# Altium integrated library Altium Database Library V2.IntLib: 825 symbols (part 39 of 40)

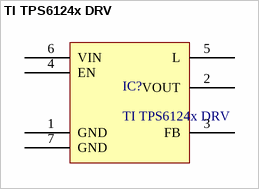
[diagram p794: symbol TI TPS6124x DRV]

## TI TPS6124x DRV
designator IC?
Integrated Circuit
pins: 1 GND, 2 VOUT, 3 FB, 4 EN, 5 L, 6 VIN, 7 GND


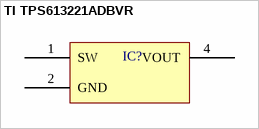
[diagram p795: symbol TI TPS613221ADBVR]

## TI TPS613221ADBVR
designator IC?
pins: 1 SW, 2 GND, 4 VOUT


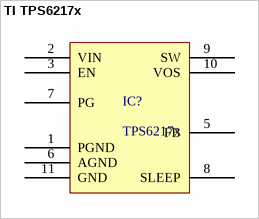
[diagram p796: symbol TI TPS6217x]

## TI TPS6217x
designator IC?, comment TPS6217x
pins: 1 PGND, 2 VIN, 3 EN, 5 FB, 6 AGND, 7 PG, 8 SLEEP, 9 SW, 10 VOS, 11 GND


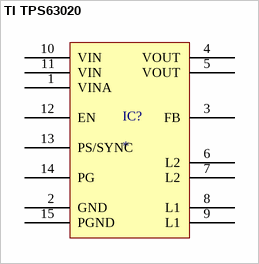
[diagram p797: symbol TI TPS63020]

## TI TPS63020
designator IC?
pins: 1 VINA, 2 GND, 3 FB, 4 VOUT, 5 VOUT, 6 L2, 7 L2, 8 L1, 9 L1, 10 VIN, 11 VIN, 12 EN, 13 PS/SYNC, 14 PG, 15 PGND


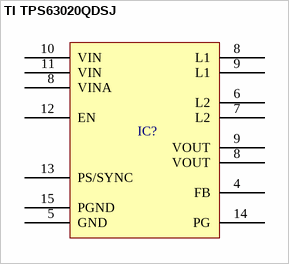
[diagram p798: symbol TI TPS63020QDSJ]

## TI TPS63020QDSJ
designator IC?
pins: 4 FB, 5 GND, 6 L2, 7 L2, 8 VINA, 8 VOUT, 8 L1, 9 VOUT, 9 L1, 10 VIN, 11 VIN, 12 EN, 13 PS/SYNC, 14 PG, 15 PGND


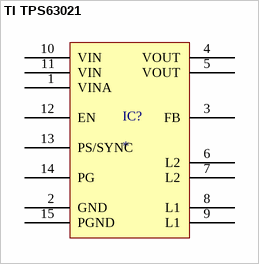
[diagram p799: symbol TI TPS63021]

## TI TPS63021
designator IC?
pins: 1 VINA, 2 GND, 3 FB, 4 VOUT, 5 VOUT, 6 L2, 7 L2, 8 L1, 9 L1, 10 VIN, 11 VIN, 12 EN, 13 PS/SYNC, 14 PG, 15 PGND


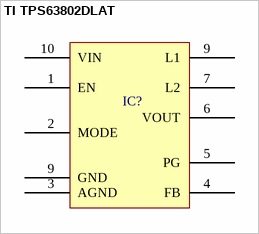
[diagram p800: symbol TI TPS63802DLAT]

## TI TPS63802DLAT
designator IC?
pins: 1 EN, 2 MODE, 3 AGND, 4 FB, 5 PG, 6 VOUT, 7 L2, 9 GND, 9 L1, 10 VIN


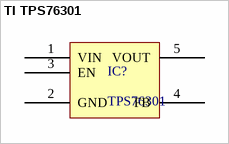
[diagram p801: symbol TI TPS76301]

## TI TPS76301
designator IC?, comment TPS76301
150mA Low-Dropout Regulator
pins: 1 VIN "Desc1", 2 GND "Desc1", 3 EN "Desc1", 4 FB "Desc1", 5 VOUT "Desc1"


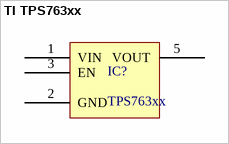
[diagram p802: symbol TI TPS763xx]

## TI TPS763xx
designator IC?, comment TPS763xx
150mA Low-Dropout Regulator
pins: 1 VIN "Desc1", 2 GND "Desc1", 3 EN "Desc1", 5 VOUT "Desc1"


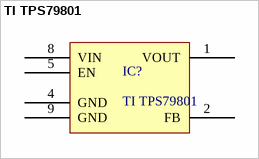
[diagram p803: symbol TI TPS79801]

## TI TPS79801
designator IC?
50 mA, 3 V TO 50 V, MICROPOWER, LOW-DROPOUT LINEAR REGULATOR
pins: 1 VOUT, 2 FB, 4 GND, 5 EN, 8 VIN, 9 GND


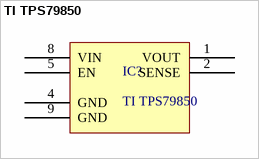
[diagram p804: symbol TI TPS79850]

## TI TPS79850
designator IC?
50 mA, 3 V TO 50 V, MICROPOWER, LOW-DROPOUT LINEAR REGULATOR
pins: 1 VOUT, 2 SENSE, 4 GND, 5 EN, 8 VIN, 9 GND


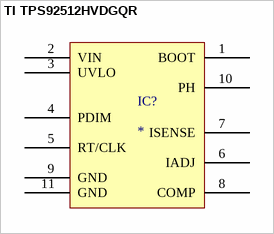
[diagram p805: symbol TI TPS92512HVDGQR]

## TI TPS92512HVDGQR
designator IC?
pins: 1 BOOT, 2 VIN, 3 UVLO, 4 PDIM, 5 RT/CLK, 6 IADJ, 7 ISENSE, 8 COMP, 9 GND, 10 PH, 11 GND


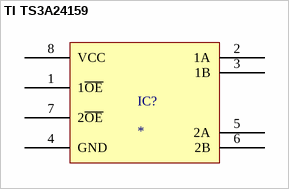
[diagram p806: symbol TI TS3A24159]

## TI TS3A24159
designator IC?
pins: 1 1~{OE}, 2 1A, 3 1B, 4 GND, 5 2A, 6 2B, 7 2~{OE}, 8 VCC


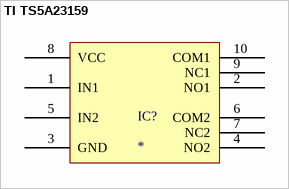
[diagram p807: symbol TI TS5A23159]

## TI TS5A23159
designator IC?
pins: 1 IN1, 2 NO1, 3 GND, 4 NO2, 5 IN2, 6 COM2, 7 NC2, 8 VCC, 9 NC1, 10 COM1


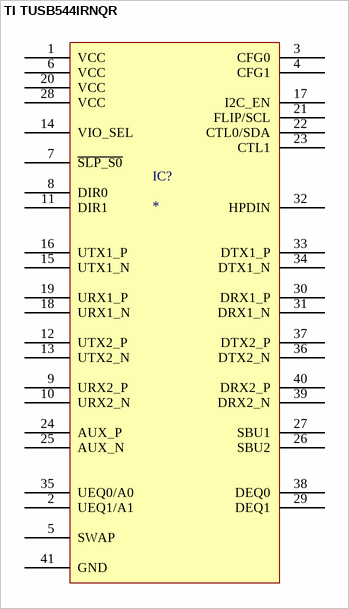
[diagram p808: symbol TI TUSB544IRNQR]

## TI TUSB544IRNQR
designator IC?
pins: 1 VCC, 2 UEQ1/A1, 3 CFG0, 4 CFG1, 5 SWAP, 6 VCC, 7 ~{SLP_S0}, 8 DIR0, 9 URX2_P, 10 URX2_N, 11 DIR1, 12 UTX2_P, 13 UTX2_N, 14 VIO_SEL, 15 UTX1_N, 16 UTX1_P, 17 I2C_EN, 18 URX1_N, 19 URX1_P, 20 VCC, 21 FLIP/SCL, 22 CTL0/SDA, 23 CTL1, 24 AUX_P, 25 AUX_N, 26 SBU2, 27 SBU1, 28 VCC, 29 DEQ1, 30 DRX1_P, 31 DRX1_N, 32 HPDIN, 33 DTX1_P, 34 DTX1_N, 35 UEQ0/A0, 36 DTX2_N, 37 DTX2_P, 38 DEQ0, 39 DRX2_N, 40 DRX2_P, 41 GND


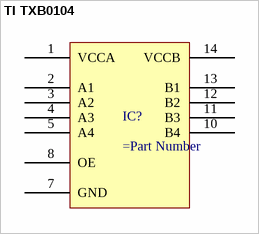
[diagram p809: symbol TI TXB0104]

## TI TXB0104
designator IC?
pins: 1 VCCA, 2 A1, 3 A2, 4 A3, 5 A4, 7 GND, 8 OE, 10 B4, 11 B3, 12 B2, 13 B1, 14 VCCB


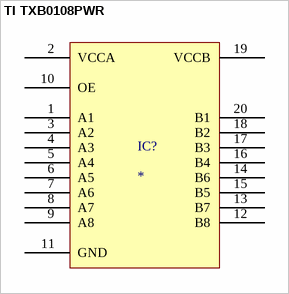
[diagram p810: symbol TI TXB0108PWR]

## TI TXB0108PWR
designator IC?
pins: 1 A1, 2 VCCA, 3 A2, 4 A3, 5 A4, 6 A5, 7 A6, 8 A7, 9 A8, 10 OE, 11 GND, 12 B8, 13 B7, 14 B6, 15 B5, 16 B4, 17 B3, 18 B2, 19 VCCB, 20 B1


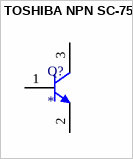
[diagram p811: symbol TOSHIBA NPN SC-75]

## TOSHIBA NPN SC-75
designator Q?
pins: 1 B, 2 E, 3 C


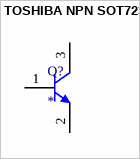
[diagram p812: symbol TOSHIBA NPN SOT723]

## TOSHIBA NPN SOT723
designator Q?
pins: 1 B, 2 E, 3 C


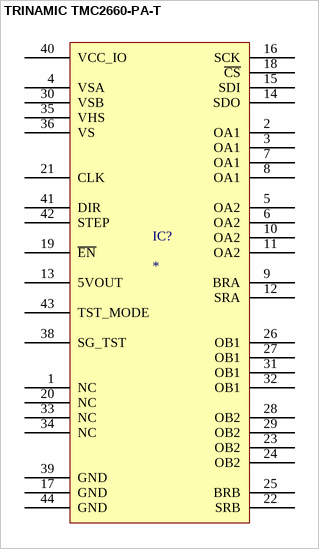
[diagram p813: symbol TRINAMIC TMC2660-PA-T]

## TRINAMIC TMC2660-PA-T
designator IC?
pins: 1 NC, 2 OA1, 3 OA1, 4 VSA, 5 OA2, 6 OA2, 7 OA1, 8 OA1, 9 BRA, 10 OA2, 11 OA2, 12 SRA, 13 5VOUT, 14 SDO, 15 SDI, 16 SCK, 17 GND, 18 ~{CS}, 19 ~{EN}, 20 NC, 21 CLK, 22 SRB, 23 OB2, 24 OB2, 25 BRB, 26 OB1, 27 OB1, 28 OB2, 29 OB2, 30 VSB, 31 OB1, 32 OB1, 33 NC, 34 NC, 35 VHS, 36 VS, 38 SG_TST, 39 GND, 40 VCC_IO, 41 DIR, 42 STEP, 43 TST_MODE, 44 GND


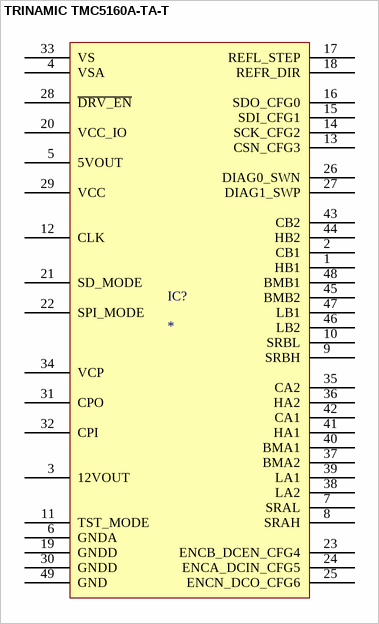
[diagram p814: symbol TRINAMIC TMC5160A-TA-T]

## TRINAMIC TMC5160A-TA-T
designator IC?
pins: 1 HB1, 2 CB1, 3 12VOUT, 4 VSA, 5 5VOUT, 6 GNDA, 7 SRAL, 8 SRAH, 9 SRBH, 10 SRBL, 11 TST_MODE, 12 CLK, 13 CSN_CFG3, 14 SCK_CFG2, 15 SDI_CFG1, 16 SDO_CFG0, 17 REFL_STEP, 18 REFR_DIR, 19 GNDD, 20 VCC_IO, 21 SD_MODE, 22 SPI_MODE, 23 ENCB_DCEN_CFG4, 24 ENCA_DCIN_CFG5, 25 ENCN_DCO_CFG6, 26 DIAG0_SWN, 27 DIAG1_SWP, 28 ~{DRV_EN}, 29 VCC, 30 GNDD, 31 CPO, 32 CPI, 33 VS, 34 VCP, 35 CA2, 36 HA2, 37 BMA2, 38 LA2, 39 LA1, 40 BMA1, 41 HA1, 42 CA1, 43 CB2, 44 HB2, 45 BMB2, 46 LB2, 47 LB1, 48 BMB1, 49 GND


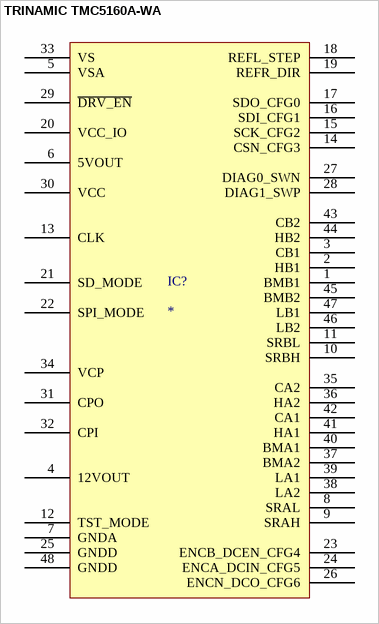
[diagram p815: symbol TRINAMIC TMC5160A-WA]

## TRINAMIC TMC5160A-WA
designator IC?
pins: 1 BMB1, 2 HB1, 3 CB1, 4 12VOUT, 5 VSA, 6 5VOUT, 7 GNDA, 8 SRAL, 9 SRAH, 10 SRBH, 11 SRBL, 12 TST_MODE, 13 CLK, 14 CSN_CFG3, 15 SCK_CFG2, 16 SDI_CFG1, 17 SDO_CFG0, 18 REFL_STEP, 19 REFR_DIR, 20 VCC_IO, 21 SD_MODE, 22 SPI_MODE, 23 ENCB_DCEN_CFG4, 24 ENCA_DCIN_CFG5, 25 GNDD, 26 ENCN_DCO_CFG6, 27 DIAG0_SWN, 28 DIAG1_SWP, 29 ~{DRV_EN}, 30 VCC, 31 CPO, 32 CPI, 33 VS, 34 VCP, 35 CA2, 36 HA2, 37 BMA2, 38 LA2, 39 LA1, 40 BMA1, 41 HA1, 42 CA1, 43 CB2, 44 HB2, 45 BMB2, 46 LB2, 47 LB1, 48 GNDD


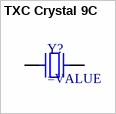
[diagram p816: symbol TXC Crystal 9C]

## TXC Crystal 9C
designator Y?
SMT Crystal
pins: 1, 2
